# EAGLE library part LAN8720A (library r2p_ic)
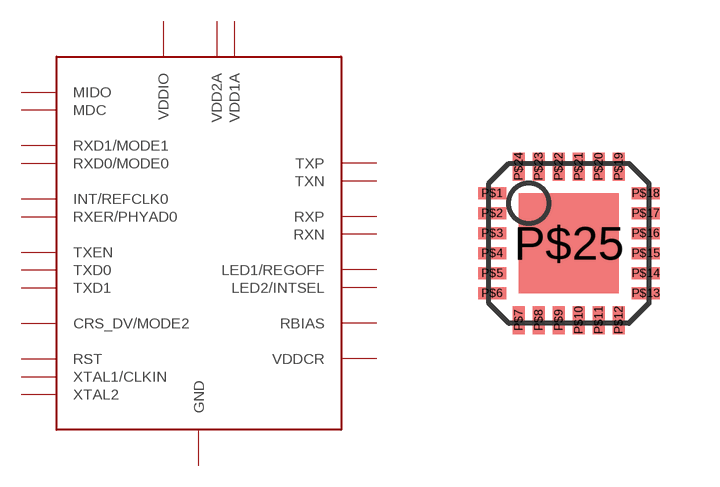
[diagram p3: symbol with the pads of QFN24; footprint QFN24]

Designator prefix U

## LAN8720A  [QFN24]
P$1  VDD2A
P$2  LED2/INTSEL
P$3  LED1/REGOFF
P$4  XTAL2
P$5  XTAL1/CLKIN
P$6  VDDCR
P$7  RXD1/MODE1
P$8  RXD0/MODE0
P$9  VDDIO
P$10  RXER/PHYAD0
P$11  CRS_DV/MODE2
P$12  MIDO
P$13  MDC
P$14  INT/REFCLK0
P$15  RST
P$16  TXEN
P$17  TXD0
P$18  TXD1
P$19  VDD1A
P$20  TXN
P$21  TXP
P$22  RXN
P$23  RXP
P$24  RBIAS
P$25  GND

## Footprint QFN24 (pad centres in mm)
smd 0.7 x 0.3: P$1 -1.92,1.25; P$2 -1.92,0.75; P$3 -1.92,0.25; P$4 -1.92,-0.25; P$5 -1.92,-0.75; P$6 -1.92,-1.25; P$13 1.92,-1.25; P$14 1.92,-0.75; P$15 1.92,-0.25; P$16 1.92,0.25; P$17 1.92,0.75; P$18 1.92,1.25
smd 0.3 x 0.7: P$7 -1.25,-1.92; P$8 -0.75,-1.92; P$9 -0.25,-1.92; P$10 0.25,-1.92; P$11 0.75,-1.92; P$12 1.25,-1.92; P$19 1.25,1.92; P$20 0.75,1.92; P$21 0.25,1.92; P$22 -0.25,1.92; P$23 -0.75,1.92; P$24 -1.25,1.92
smd 2.5 x 2.5: P$25 0,0